# EAGLE library part NTZD5110N (library Discrete)
On Semoiconductor 60V 310mA Dual N-Channel MOSFET
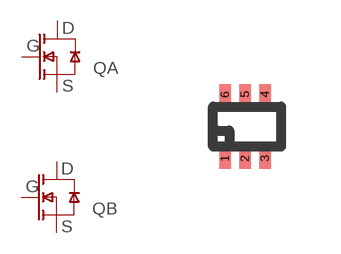
[diagram p12: symbol with the pads of SOT-563_6; footprint SOT-563_6]

Designator prefix Q; gates A=MOSFET-N B=MOSFET-N

## NTZD5110N  [SOT-563_6]
1  A:S
2  A:G
3  B:D
4  B:S
5  B:G
6  A:D

## Footprint SOT-563_6 (pad centres in mm)
smd 0.3 x 0.5: 1 -0.5,-0.8; 2 0,-0.8; 3 0.5,-0.8; 4 0.5,0.8; 5 0,0.8; 6 -0.5,0.8